# EAGLE library part ARDUINO_UNO_R3_SPI (library FaBo-Boards)
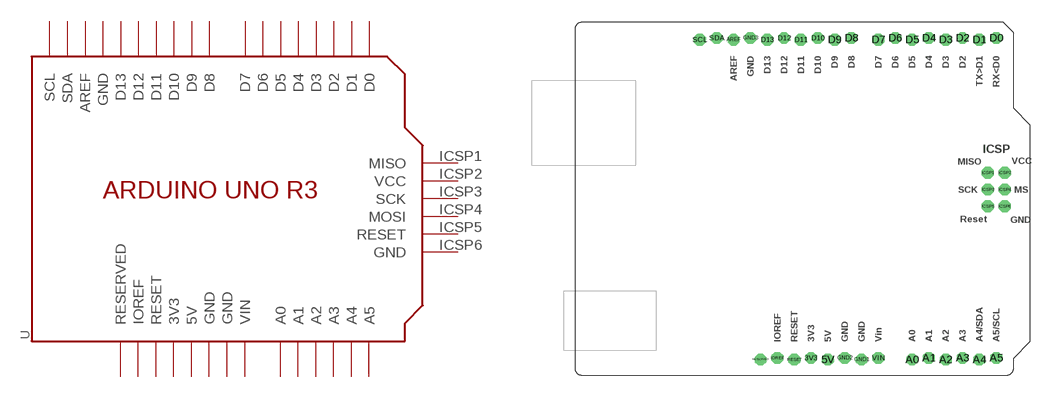
[diagram p9: symbol with the pads of ARDUINO_UNO_R3_SPI; footprint ARDUINO_UNO_R3_SPI]

Designator prefix -

## ARDUINO_UNO_R3_SPI  [ARDUINO_UNO_R3_SPI]
3V3  3V3  pwr
5V  5V  pwr
A0  A0
A1  A1
A2  A2
A3  A3
A4  A4
A5  A5
AREF  AREF
D0  D0
D1  D1
D2  D2
D3  D3
D4  D4
D5  D5
D6  D6
D7  D7
D8  D8
D9  D9
D10  D10
D11  D11
D12  D12
D13  D13
GND1  GND  pwr
GND2  GND  pwr
GND3  GND  pwr
ICSP1  MISO
ICSP2  VCC
ICSP3  SCK
ICSP4  MOSI
ICSP5  RESET
ICSP6  GND
IOREF  IOREF  out
RESERVED  RESERVED  nc
RESET  RESET
SCL  SCL
SDA  SDA
VIN  VIN  pwr

## Footprint ARDUINO_UNO_R3_SPI (pad centres in mm)
drill 1 pad 1.778 octagon: 3V3 35.56,2.667; 5V 38.1,2.413; A0 50.8,2.413; A1 53.34,2.667; A2 55.88,2.413; A3 58.42,2.667; A4 60.96,2.413; A5 63.5,2.667; AREF 23.876,50.673; D0 63.5,50.927; D1 60.96,50.673; D2 58.42,50.927; D3 55.88,50.673; D4 53.34,50.927; D5 50.8,50.673; D6 48.26,50.927; D7 45.72,50.673; D8 41.656,50.927; D9 39.116,50.673; D10 36.576,50.927; D11 34.036,50.673; D12 31.496,50.927; D13 28.956,50.673; GND1 43.18,2.413; GND2 40.64,2.667; GND3 26.416,50.927; ICSP1 62.23,30.607; ICSP2 64.77,30.607; ICSP3 62.23,28.067; ICSP4 64.77,28.067; ICSP5 62.23,25.527; ICSP6 64.77,25.527; IOREF 30.48,2.667; RESERVED 27.94,2.413; RESET 33.02,2.413; SCL 18.796,50.673; SDA 21.336,50.927; VIN 45.72,2.667